# EAGLE library part 1PEEK-6_C (library con-odu_med)
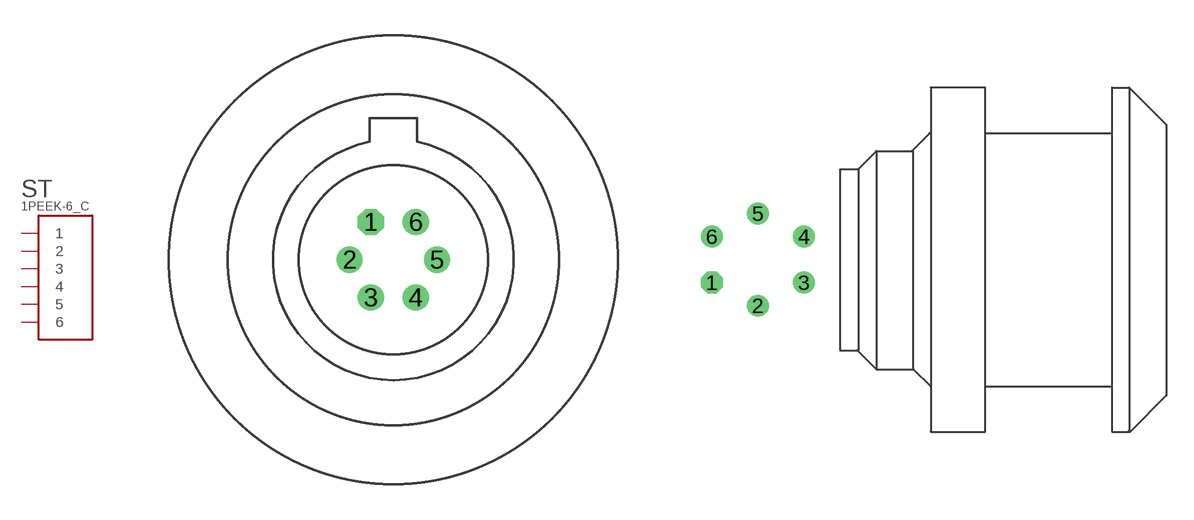
[diagram p17: symbol with the pads of 1PEEK06; footprints 1PEEK06, 1PEEK06_S]

Designator prefix ST

## 1PEEK-6_C  [1PEEK06]
1  1  pas
2  2  pas
3  3  pas
4  4  pas
5  5  pas
6  6  pas

## 1PEEK-6_C1PEEK-6_S  [1PEEK06_S]
Pads as for 1PEEK06

## Footprint 1PEEK06 (pad centres in mm)
drill 0.6 octagon: 1 -0.95,1.6
drill 0.6: 2 -1.85,0; 3 -0.95,-1.6; 4 0.95,-1.6; 5 1.85,0; 6 0.95,1.6

## Footprint 1PEEK06_S (pad centres in mm)
drill 0.7 octagon: 1 -5.08,-1.27
drill 0.7: 2 -2.54,-2.54; 3 0,-1.27; 4 0,1.27; 5 -2.54,2.54; 6 -5.08,1.27